# EAGLE library part USB3150-30-130-A (library auv)
Micro USB Plug, Type B, Through-Hole, Vertical, with Shell Stakes, with Locating Pegs
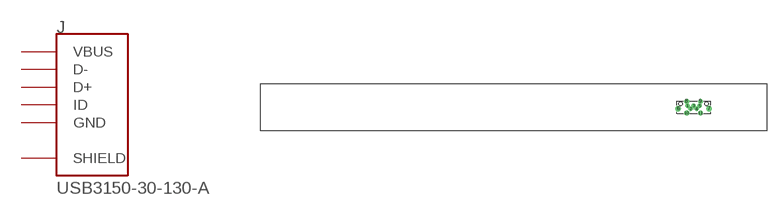
[diagram p10: symbol with the pads of GCT_USB3150-XX-XXX-X_REVA; footprint GCT_USB3150-XX-XXX-X_REVA]

Designator prefix J

## USB3150-30-130-A (AVAILABILITY: Good; DESCRIPTION: Vertical Through Hole Type B Micro USB Plug w/ Shell Stakes and Pegs; MF: Global Connector Technology; MP: USB3150-30-130-A; PACKAGE: None; PRICE: 0.70 USD)  [GCT_USB3150-XX-XXX-X_REVA]
1  VBUS  pwr
2  D-
3  D+
4  ID  pas
5  GND  pwr
6  SHIELD  pas
7  SHIELD  pas
8  SHIELD  pas
9  SHIELD  pas
10  SHIELD  pas
11  SHIELD  pas

## Footprint GCT_USB3150-XX-XXX-X_REVA (pad centres in mm)
drill 0.45 pad 0.8: 1 -1.3,0.325; 2 -0.65,-0.325; 3 0,0.325; 4 0.65,-0.325; 5 1.3,0.325
drill 0.7 pad 1.2: 6 -3.325,-0.295; 7 3.325,-0.295
drill 0.55 pad 0.8: 8 -1.5,1.245; 9 1.5,1.245; 10 -1.5,-1.255; 11 1.5,-1.255
hole 0.8 at -2.8,0.745
hole 0.8 at 2.8,0.745